# Altium footprint library MEGA.PcbLib: 237 footprints (part 2 of 15)
Each footprint in its own frame and in the unit in brackets; x right, y up, seen from the top. Pads: shape width x height; smd on the part's side, far side on the other; paste and mask are expansions set on the pad; w line width, h text height; cw(c..) or ccw(c..) is an arc to the next point about the centre after c.
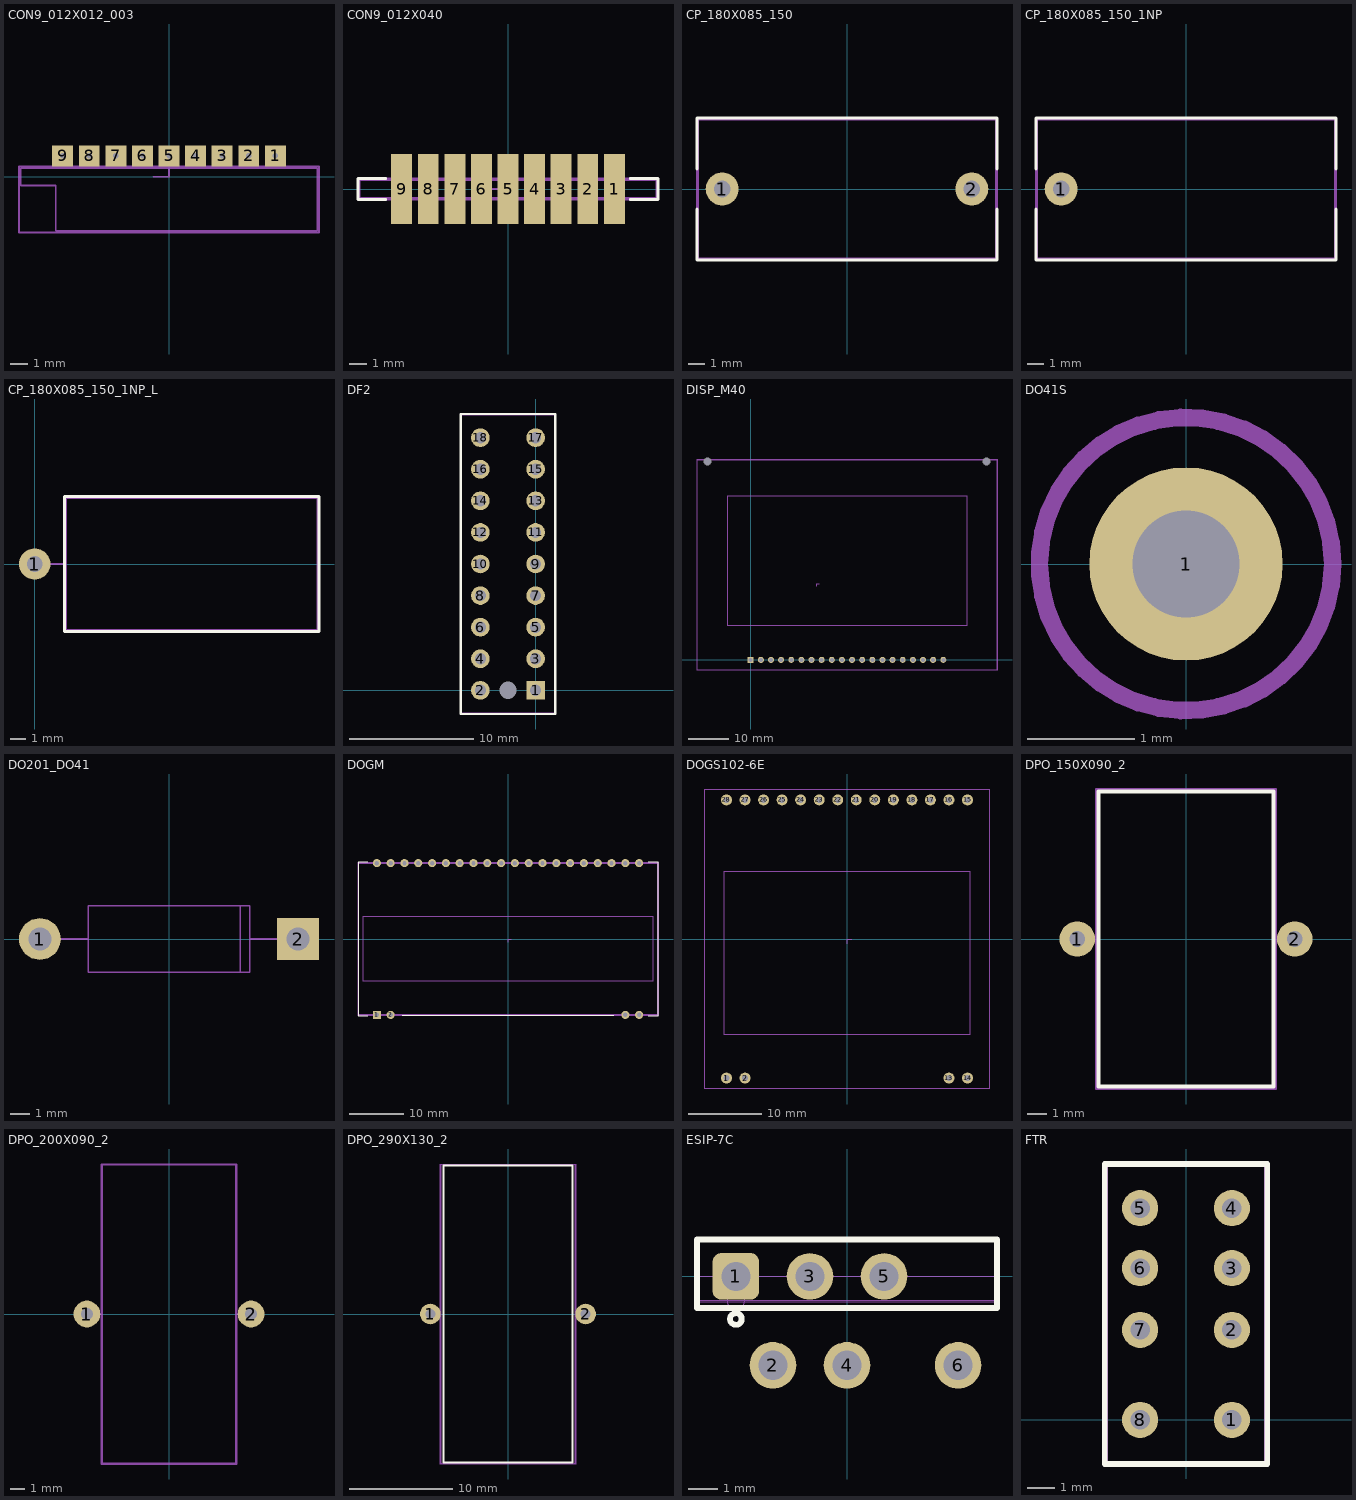
[diagram p1: the footprints below, top view; thin cyan lines are the x and y axes]

## CON9_012X012_003 [mm]
pads (9):
  rect 1.2x1.2 hole 0.3 mask+0.05: 1(6.096,1.2) 2(4.572,1.2) 3(3.048,1.2) 4(1.524,1.2) 5(0,1.2) 6(-1.524,1.2) 7(-3.048,1.2) 8(-4.572,1.2) 9(-6.096,1.2)
Mechanical 15:
  lines w0.1: -8.5,-0.5 -6.5,-0.5 -6.5,-3.1 8.5,-3.1 8.5,0.5 -8.5,0.5 -8.5,-0.5
Multi-Layer:
  text "Value" at -1.888,-1.55 h0.6
Mechanical 19:
  lines w0.1: -0.91,0 0,0 0,0.9
Mechanical 20:
  lines w0.1: -8.6,-3.2 8.6,-3.2 8.6,0.6 -8.6,0.6 -8.6,-3.2

## CON9_012X040 [mm]
pads (9):
  rect 1.2x4 smd mask+0.05: 1(6.096,0) 2(4.572,0) 3(3.048,0) 4(1.524,0) 5(0,0) 6(-1.524,0) 7(-3.048,0) 8(-4.572,0) 9(-6.096,0)
Top Overlay:
  lines w0.15: -7,-0.6 -8.6,-0.6 -8.6,0.6 -7,0.6 ; 7,-0.6 8.6,-0.6 8.6,0.6 7,0.6
Mechanical 15:
  lines w0.1: -8.5,-0.5 8.5,-0.5 8.5,0.5 -8.5,0.5 -8.5,-0.5
Multi-Layer:
  text "Value" at -1.888,-1.55 h0.6
Mechanical 19:
  lines w0.1: -0.91,0 0,0 0,0.9
Mechanical 20:
  lines w0.1: -8.6,-0.6 8.6,-0.6 8.6,0.6 -8.6,0.6 -8.6,-0.6

## CP_180X085_150 [mm]
height 9.5
pads (2):
  round 2 hole 1 mask+0.05: 1(-7.556,0) 2(7.556,0)
Top Overlay:
  lines w0.2: -9.08,-1.206 -9.08,-4.3 9.08,-4.3 9.08,-1.206 ; -9.08,1.206 -9.08,4.3 9.08,4.3 9.08,1.206
Mechanical 15:
  lines w0.1: -9.017,-4.2 9.017,-4.2 9.017,4.2 -9.017,4.2 -9.017,-4.2
Mechanical 20:
  lines w0.1: -9.08,-4.3 9.08,-4.3 9.08,4.3 -9.08,4.3 -9.08,-4.3

## CP_180X085_150_1NP [mm]
height 9.5
pads (1):
  round 2 hole 1 mask+0.05: 1(-7.556,0)
Top Overlay:
  lines w0.2: -9.08,-1.206 -9.08,-4.3 9.08,-4.3 9.08,-1.206 ; -9.08,1.206 -9.08,4.3 9.08,4.3 9.08,1.206
Mechanical 15:
  lines w0.1: -9.017,-4.2 -9.017,4.2 9.017,4.2 9.017,-4.2 -9.017,-4.2
Multi-Layer:
  text "Value" at -1.235,-1.187 h0.75
Mechanical 20:
  lines w0.1: -9.08,-4.3 -9.08,4.3 9.08,4.3 9.08,-4.3 -9.08,-4.3

## CP_180X085_150_1NP_L [mm]
height 9.5
pads (1):
  round 2 hole 1 mask+0.05: 1(0,0)
Top Overlay:
  lines w0.2: 1.9,1.2 1.9,-4.3 18.1,-4.3 18.1,1.2 ; 1.9,1.206 1.9,4.3 18.1,4.3 18.1,1.206
Mechanical 15:
  lines w0.1: 0,0 2,0 ; 2,-4.2 18,-4.2 18,4.2 2,4.2 2,-4.2
Multi-Layer:
  text "Value" at 6.321,-1.187 h0.75
Mechanical 20:
  lines w0.1: 1.9,-4.3 18.1,-4.3 18.1,4.3 1.9,4.3 1.9,-4.3

## DF2 [mm]
pads (19):
  rect 1.5x1.5 hole 0.9 mask+0.05: 1(0,0)
  round 1.5 hole 0.9 mask+0.05: 2(-4.445,0) 3(0,2.54) 4(-4.445,2.54) 5(0,5.08) 6(-4.445,5.08) 7(0,7.62) 8(-4.445,7.62) 9(0,10.16) 10(-4.445,10.16) 11(0,12.7) 12(-4.445,12.7) 13(0,15.24) 14(-4.445,15.24) 15(0,17.78) 16(-4.445,17.78) 17(0,20.32) 18(-4.445,20.32)
  round 0 hole 1.4 unplated: HL1(-2.222,0)
Top Overlay:
  lines w0.2: -6.032,-1.905 1.587,-1.905 1.587,22.225 -6.032,22.225 -6.032,-1.905
Mechanical 15:
  lines w0.1: -5.969,-1.841 1.524,-1.841 1.524,22.162 -5.969,22.162 -5.969,-1.841
Multi-Layer:
  text "Value" at -3.331,6.243 h0.75
Mechanical 20:
  lines w0.1: -6.032,-1.905 1.587,-1.905 1.587,22.225 -6.032,22.225 -6.032,-1.905

## DISP_M40 [mm]
pads (22):
  rect 1.5x1.5 hole 1 mask+0.05: 1(0,0)
  round 1.5 hole 1 mask+0.05: 2(2.54,0) 3(5.08,0) 4(7.62,0) 5(10.16,0) 6(12.7,0) 7(15.24,0) 8(17.78,0) 9(20.32,0) 10(22.86,0) 11(25.4,0) 12(27.94,0) 13(30.48,0) 14(33.02,0) 15(35.56,0) 16(38.1,0) 17(40.64,0) 18(43.18,0) 19(45.72,0) 20(48.26,0)
  round 0 hole 2 unplated: HL1(-10.858,49.657) HL2(59.118,49.657)
Mechanical 15:
  lines w0.1: -13.399,-2.54 61.658,-2.54 61.658,50.165 -13.399,50.165 -13.399,-2.54 ; -5.779,8.572 54.165,8.572 54.165,41.084 -5.779,41.084 -5.779,8.572
Multi-Layer:
  text "Value" at 15.472,16.478 h0.75
Mechanical 19:
  lines w0.1: 16.51,18.415 16.51,19.05 17.145,19.05
Mechanical 20:
  lines w0.1: -13.462,-2.603 61.722,-2.603 61.722,50.228 -13.462,50.228 -13.462,-2.603

## DO41S [mm]
pads (1):
  round 1.8 hole 1 mask+0.05: 1(0,0)
Mechanical 15:
  circle w0.1: c0,0 r1.333
  text "A" at 1.563,-0.286 h0.6
Mechanical 20:
  circle w0.1: c0,0 r1.397

## DO201_DO41 [mm]
pads (2):
  round 2.2 hole 1.2 mask+0.1: 1(-6.794,0)
  rect 2.2x2.2 hole 1.2 mask+0.1: 2(6.794,0)
Mechanical 15:
  lines w0.1: -6.794,0 -4.25,0 ; 3.75,-1.75 3.75,1.75 ; 4.25,0 6.794,0 ; -4.25,-1.75 4.25,-1.75 4.25,1.75 -4.25,1.75 -4.25,-1.75

## DOGM [mm]
pads (24):
  rect 1.5x1.5 hole 0.8 mask+0.05: 1(-24.13,-13.97)
  round 1.5 hole 0.8 mask+0.05: 2(-21.59,-13.97) 19(21.59,-13.97) 20(24.13,-13.97) 21(24.13,13.97) 22(21.59,13.97) 23(19.05,13.97) 24(16.51,13.97) 25(13.97,13.97) 26(11.43,13.97) 27(8.89,13.97) 28(6.35,13.97) 29(3.81,13.97) 30(1.27,13.97) 31(-1.27,13.97) 32(-3.81,13.97) 33(-6.35,13.97) 34(-8.89,13.97) 35(-11.43,13.97) 36(-13.97,13.97) 37(-16.51,13.97) 38(-19.05,13.97) 39(-21.59,13.97) 40(-24.13,13.97)
Top Overlay:
  lines w0.2: -25.8,-14.1 -27.6,-14.1 -27.6,14.1 -25.8,14.1 ; -19.5,-14.1 19.5,-14.1 ; 25.8,-14.1 27.6,-14.1 27.6,14.1 25.8,14.1
Mechanical 15:
  lines w0.01: -27.5,-13.97 27.5,-13.97 27.5,13.97 -27.5,13.97 -27.5,-13.97 ; -26.67,-7.78 26.67,-7.78 26.67,4.22 -26.67,4.22 -26.67,-7.78
Multi-Layer:
  text "Value" at -0.993,-2.572 h0.75
Mechanical 19:
  lines w0.01: 0,-0.635 0,0 0.635,0
Mechanical 20:
  lines w0.01: -27.6,-14.1 27.6,-14.1 27.6,14.1 -27.6,14.1 -27.6,-14.1

## DOGS102-6E [mm]
pads (18):
  round 1.5 hole 0.8 mask+0.1: 1(-16.51,-19.05) 2(-13.97,-19.05) 13(13.97,-19.05) 14(16.51,-19.05) 15(16.51,19.05) 16(13.97,19.05) 17(11.43,19.05) 18(8.89,19.05) 19(6.35,19.05) 20(3.81,19.05) 21(1.27,19.05) 22(-1.27,19.05) 23(-3.81,19.05) 24(-6.35,19.05) 25(-8.89,19.05) 26(-11.43,19.05) 27(-13.97,19.05) 28(-16.51,19.05)
Mechanical 15:
  lines w0.1: -19.5,-20.55 19.5,-20.55 19.5,20.55 -19.5,20.55 -19.5,-20.55 ; -16.8,-13.1 16.8,-13.1 16.8,9.3 -16.8,9.3 -16.8,-13.1
Mechanical 19:
  lines w0.1: 0,-0.635 0,0 0.635,0

## DPO_150X090_2 [mm]
pads (2):
  round 1.8 hole 0.8 mask+0.1: 1(-5.524,0) 2(5.524,0)
Top Overlay:
  lines w0.2: -4.445,-7.493 4.445,-7.493 4.445,7.493 -4.445,7.493 -4.445,-7.493
Mechanical 15:
  lines w0.1: -5.524,0 -4.508,0 ; 4.508,0 5.524,0 ; -4.508,-7.556 4.508,-7.556 4.508,7.556 -4.508,7.556 -4.508,-7.556
Mechanical 20:
  lines w0.1: -4.572,-7.62 4.572,-7.62 4.572,7.62 -4.572,7.62 -4.572,-7.62

## DPO_200X090_2 [mm]
pads (2):
  round 1.8 hole 0.8 mask+0.1: 1(-5.524,0) 2(5.524,0)
Mechanical 15:
  lines w0.1: -5.524,0 -4.508,0 ; 4.508,0 5.524,0 ; -4.508,-10.033 4.508,-10.033 4.508,10.033 -4.508,10.033 -4.508,-10.033
Mechanical 20:
  lines w0.1: -4.572,-10.096 4.572,-10.096 4.572,10.096 -4.572,10.096 -4.572,-10.096

## DPO_290X130_2 [mm]
pads (2):
  round 2 hole 1 mask+0.1: 1(-7.556,0) 2(7.556,0)
Top Overlay:
  lines w0.2: -6.286,-14.478 6.286,-14.478 6.286,14.478 -6.286,14.478 -6.286,-14.478
Mechanical 15:
  lines w0.1: -7.556,0 -6.54,0 ; 6.54,0 7.556,0 ; -6.54,-14.541 6.54,-14.541 6.54,14.541 -6.54,14.541 -6.54,-14.541
Mechanical 20:
  lines w0.1: -6.604,-14.605 6.604,-14.605 6.604,14.605 -6.604,14.605 -6.604,-14.605

## ESIP-7C [mm]
pads (6):
  rrect37% 1.6x1.6 hole 1 mask+0.05: 1(-3.81,0)
  round 1.6 hole 1 mask+0.05: 2(-2.54,-3.048) 3(-1.27,0) 4(0,-3.048) 5(1.27,0) 6(3.81,-3.048)
Top Overlay:
  circle w0.2: c-3.81,-1.46 r0.2
  lines w0.2: -5.143,-1.079 5.143,-1.079 5.143,1.27 -5.143,1.27 -5.143,-1.079
Mechanical 15:
  circle w0.01: c-3.81,-0.826 r0.3
  lines w0.01: -5.08,0 5.08,0 ; -5.08,-0.826 5.08,-0.826 5.08,1.206 -5.08,1.206 -5.08,-0.826
Multi-Layer:
  text "Value" at -1.23,-1.93 h0.75
Mechanical 20:
  lines w0.01: -5.143,-0.889 5.143,-0.889 5.143,1.27 -5.143,1.27 -5.143,-0.889

## FTR [mm]
pads (8):
  round 1.3 hole 0.7 mask+0.1: 1(1.651,0) 2(1.651,3.238) 3(1.651,5.461) 4(1.651,7.62) 5(-1.651,7.62) 6(-1.651,5.461) 7(-1.651,3.238) 8(-1.651,0)
Top Overlay:
  lines w0.2: -2.921,-1.587 2.921,-1.587 2.921,9.207 -2.921,9.207 -2.921,-1.587
Mechanical 15:
  lines w0.1: -2.857,-1.524 2.857,-1.524 2.857,9.144 -2.857,9.144 -2.857,-1.524
Multi-Layer:
  text "Value" at -1.235,1.48 h0.75
Mechanical 20:
  lines w0.1: -2.921,-1.587 2.921,-1.587 2.921,9.207 -2.921,9.207 -2.921,-1.587